# EAGLE library part 750316335 (library WE-POE++)
WE-PoE++ Power over Ethernet Plus Plus Transformer Characteristics Suitable for CCM Flyback or Active Clamp Forward Different power levels up to 95W Frequency range: 250-400 kHz Different output voltages available Custom designs available Applications Telecom Industrial Applications WLAN Access Point Safety cameras Intelligent LED Lighting Networks <https://www.we-online.com/components/media/o721702v209%20FAMILY-MID-POE%2B%2B.jpg> Details see: www.we-online.com/en/components/products/WE-POE-PLUS-PLUS <www.we-online.com/catalog/WE-POE-PLUS-PLUS/?utm_source=eagle_model&utm_medium=description_link&utm_campaign=eisos_eagle> Created by Ella 2024-01-30 2024(C) Wurth Elektronik
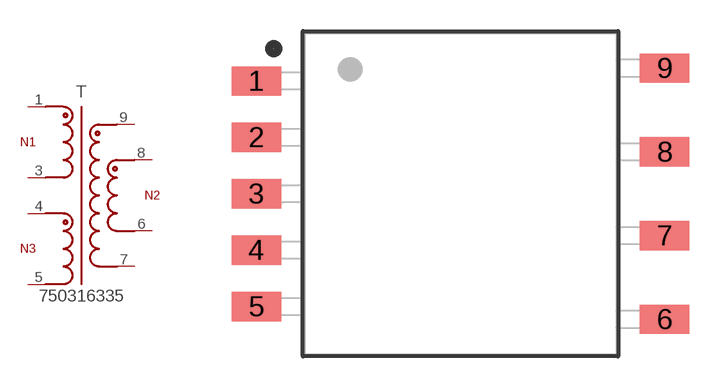
[diagram p13: symbol with the pads of WE-POE++_EPW15_L21.89H15.5H13.5; footprint WE-POE++_EPW15_L21.89H15.5H13.5]

Designator prefix T

## 750316335 (DATASHEET-URL: https://www.we-online.com/redexpert/spec/750316335?ae; IO1: 14A; L: 50uH; N: 4:1:2.33; PART-NUMBER: 750316335; SIZE: EPW15; VALUE: 750316335; VAUX: 12V; VERSION: Forward; VIN: 36 - 57 V (DC); VO1: 5V; VT: 1500V(AC))  [WE-POE++_EPW15_L21.89H15.5H13.5]
1  1  pas
3  3  pas
4  4  pas
5  5  pas
6  6  pas
7  7  pas
8  8  pas
9  9  pas

## Footprint WE-POE++_EPW15_L21.89H15.5H13.5 (pad centres in mm)
WE-PoE++ Power over Ethernet Plus Plus Transformer EPPW15, SMT, 9Pins LXWXH=21.69X15.5X13.5mm
smd 2.38 x 1.41: 1 -9.84,5.44; 2 -9.84,2.72; 3 -9.84,0; 4 -9.84,-2.72; 5 -9.84,-5.44; 6 9.84,-6.06; 7 9.84,-2.02; 8 9.84,2.02; 9 9.84,6.06